# EAGLE library part LTC3473 (library IC)
Micropower 1A Boost Converter
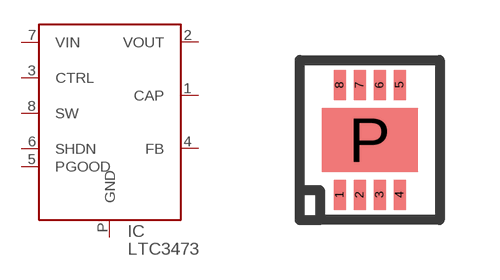
[diagram p179: symbol with the pads of DFN8; footprint DFN8]

Designator prefix IC

## LTC3473EDD  [DFN8]
1  CAP
2  VOUT
3  CTRL
4  FB
5  PGOOD
6  SHDN
7  VIN
8  SW
P  GND

## Footprint DFN8 (pad centres in mm)
8 Lead Plastic DFN (3mm x 3mm) LTC DD package
smd 0.3 x 0.75: 1 -0.75,-1.375; 2 -0.25,-1.375; 3 0.25,-1.375; 4 0.75,-1.375; 5 0.75,1.375; 6 0.25,1.375; 7 -0.25,1.375; 8 -0.75,1.375
smd 2.4 x 1.6: P 0,0